# EAGLE library part HDR-100-07_S (library con-molex-kk)
HEADER
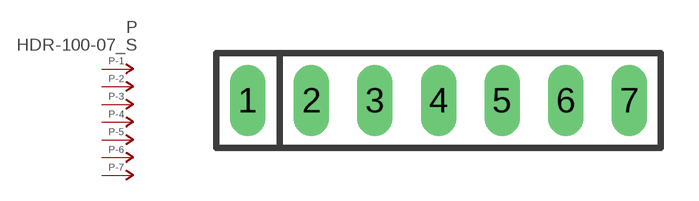
[diagram p157: symbol with the pads of HDR-100-07; footprint HDR-100-07]

Designator prefix P; gates -1=P-NV -2=P-N -3=P-N -4=P-N -5=P-N -6=P-N -7=P-N

## HDR-100-07_S  [HDR-100-07]
1  -1:P  pas
2  -2:P  pas
3  -3:P  pas
4  -4:P  pas
5  -5:P  pas
6  -6:P  pas
7  -7:P  pas

## Footprint HDR-100-07 (pad centres in mm)
HEADER - pitch 0.1"
drill 0.914 long: 1 -7.62,0; 2 -5.08,0; 3 -2.54,0; 4 0,0; 5 2.54,0; 6 5.08,0; 7 7.62,0